# Altium footprint library Common_Drain.PcbLib: 13 footprints
Each footprint in its own frame and in the unit in brackets; x right, y up, seen from the top. Pads: shape width x height; smd on the part's side, far side on the other; paste and mask are expansions set on the pad; w line width, h text height; cw(c..) or ccw(c..) is an arc to the next point about the centre after c.
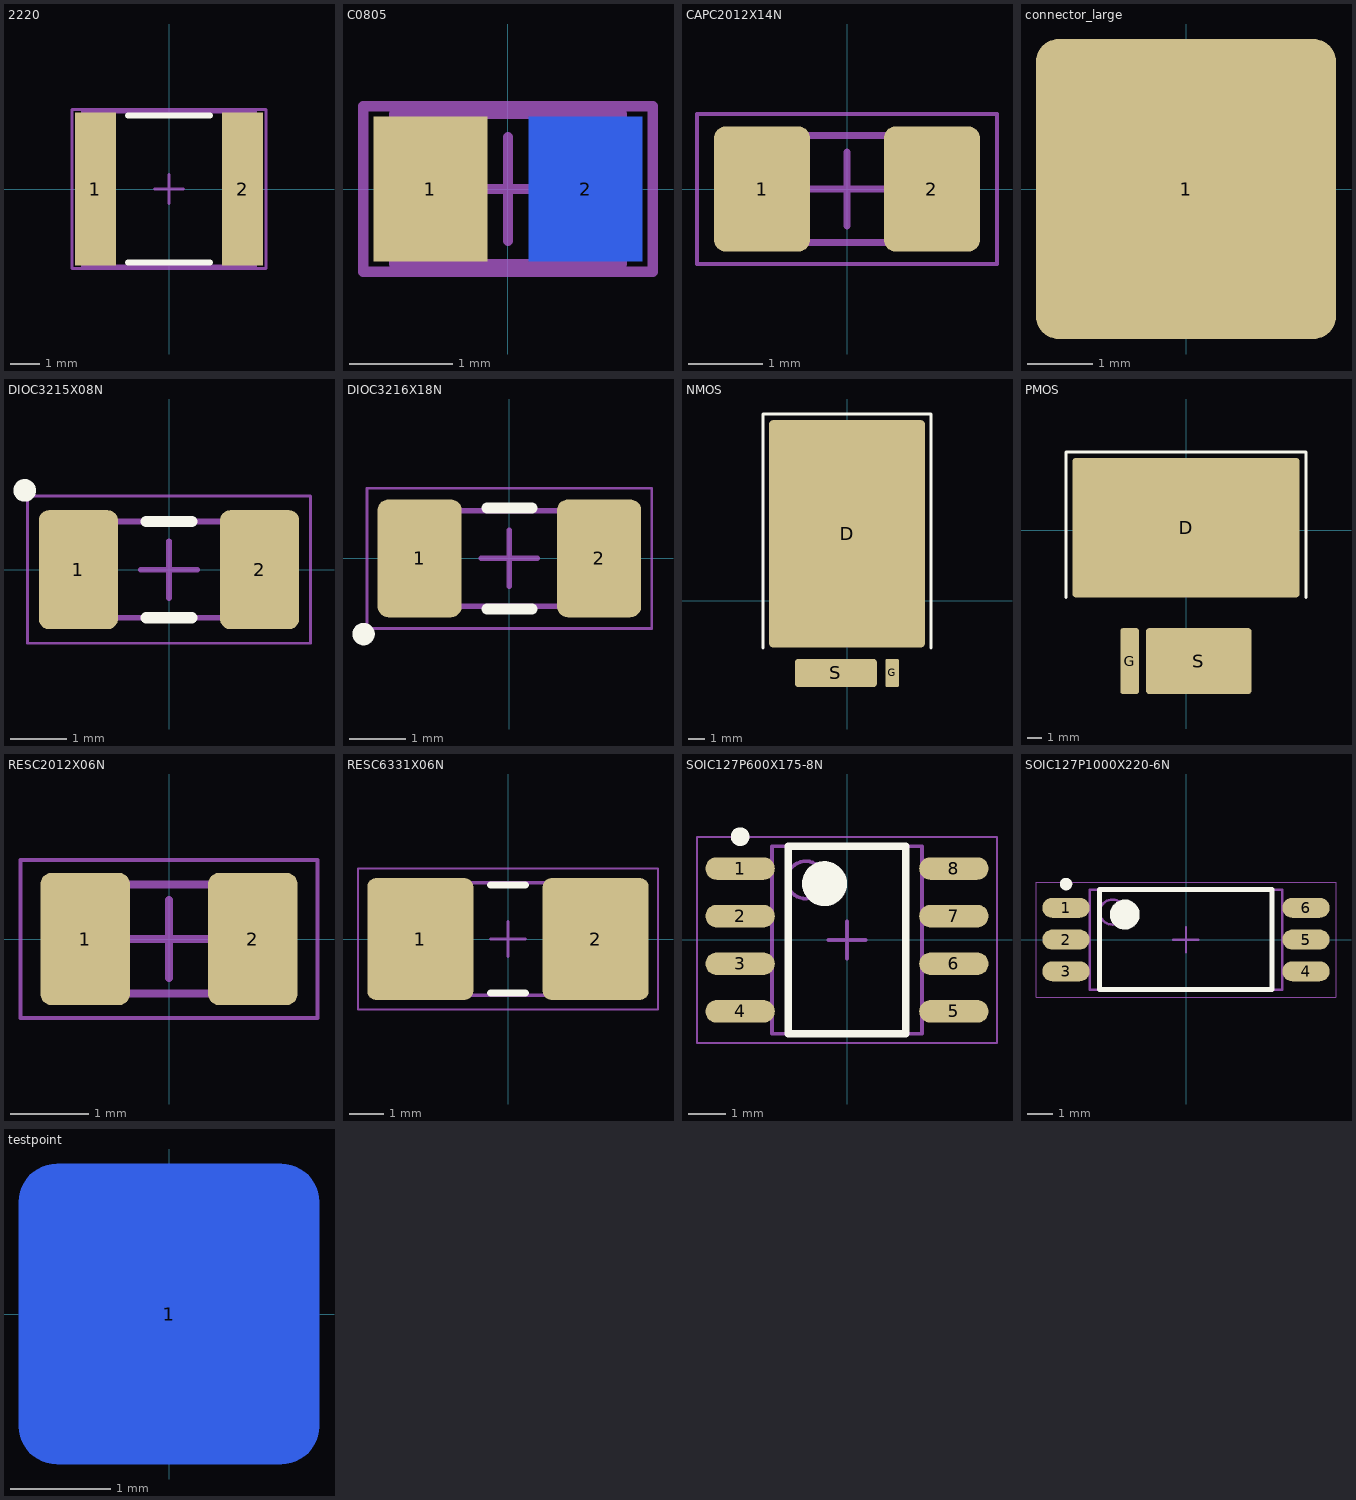
[diagram p0: the footprints below, top view; thin cyan lines are the x and y axes]

## 2220 [mm]
pads (2):
  rect 1.4x5.2 smd: 1(-2.5,0) 2(2.5,0)
Top Overlay:
  lines w0.2: -1.4,-2.5 1.4,-2.5 ; -1.4,2.5 1.4,2.5
Mechanical 13:
  lines w0.1: -2.95,-2.625 2.95,-2.625 2.95,2.625 -2.95,2.625 -2.95,-2.625
Mechanical 15:
  lines w0.1: -0.5,0 0.5,0 ; 0,-0.5 0,0.5 ; -3.3,-2.7 3.3,-2.7 3.3,2.7 -3.3,2.7 -3.3,-2.7
3D body: height 1.4, standoff 0, extent -2.95,-2.625 2.95,2.625

## C0805 [mm]
pads (2):
  rect 1.1x1.4 smd: 1(-0.75,0)
  rect 1.1x1.4 smd far side: 2(0.75,0)
Mechanical 13:
  lines w0.1: -1.1,-0.725 -1.1,0.725 1.1,0.725 1.1,-0.725 -1.1,-0.725
Mechanical 15:
  lines w0.1: -0.5,0 0.5,0 ; 0,-0.5 0,0.5 ; -1.4,-0.8 -1.4,0.8 1.4,0.8 1.4,-0.8 -1.4,-0.8
3D body: height 1.4, standoff 0, extent -1.1,-0.725 1.1,0.725

## CAPC2012X14N [mm]
pads (2):
  rrect25% 1.3x1.7 smd: 1(-1.15,0) 2(1.15,0)
Mechanical 13:
  lines w0.1: -1.1,-0.725 1.1,-0.725 1.1,0.725 -1.1,0.725 -1.1,-0.725
Mechanical 15:
  lines w0.05: -2.032,-1.016 -2.032,1.016 2.032,1.016 2.032,-1.016 -2.032,-1.016
  lines w0.1: -0.5,0 0.5,0 ; 0,-0.5 0,0.5
3D body "CAPC2012X14N.step": height 1.45, standoff 0, extent -1.1,-0.725 1.1,0.725

## connector_large [mil]
pads (1):
  rrect15% 180x180 smd: 1(0,0)

## DIOC3215X08N [mm]
pads (2):
  rrect25% 1.4x2.1 smd: 1(-1.6,0) 2(1.6,0)
Top Overlay:
  circle w0.2: c-2.55,1.4 r0.1
  lines w0.2: -0.4,-0.85 0.4,-0.85 ; -0.4,0.85 0.4,0.85
Mechanical 13:
  lines w0.1: -1.7,-0.85 -1.7,0.85 1.7,0.85 1.7,-0.85 -1.7,-0.85
Mechanical 15:
  lines w0.05: -2.5,-1.3 -2.5,1.3 2.5,1.3 2.5,-1.3 -2.5,-1.3
  lines w0.1: -0.5,0 0.5,0 ; 0,-0.5 0,0.5
3D body "DIOC3215X08N.step": height 0.85, standoff 0, extent -1.7,-0.85 1.7,0.85

## DIOC3216X18N [mm]
pads (2):
  rrect25% 1.5x2.1 smd: 1(-1.6,0) 2(1.6,0)
Top Overlay:
  circle w0.2: c-2.6,-1.35 r0.1
  lines w0.2: -0.4,-0.9 0.4,-0.9 ; -0.4,0.9 0.4,0.9
Mechanical 13:
  lines w0.1: -1.65,-0.85 -1.65,0.85 1.65,0.85 1.65,-0.85 -1.65,-0.85
Mechanical 15:
  lines w0.05: -2.54,-1.25 -2.54,1.25 2.54,1.25 2.54,-1.25 -2.54,-1.25
  lines w0.1: -0.5,0 0.5,0 ; 0,-0.5 0,0.5
3D body "XZxxxx55W-7.step": height 1.8, standoff -0.01, extent -1.6,-0.8 1.6,0.8

## NMOS [mil]
pads (3):
  rrect5% 380x554 smd: D(0,163)
  rrect25% 33x69 smd: G(110,-176)
  rrect25% 200x69 smd: S(-27,-176)
Top Overlay:
  lines w7.87: -205,-115 -205,455 205,455 205,-115
3D body "SOT669.step": height 39.44, standoff 0.16, extent -59.69,-170 129.68,70.55

## PMOS [mil]
pads (3):
  rrect5% 625x384 smd: D(0,7)
  rrect25% 51x181 smd: G(-155,-360)
  rrect10% 291x181 smd: S(35,-360)
Top Overlay:
  lines w7.87: -330,-185 -330,215 330,215 330,-185
3D body "DPAK228P991X238-3N.step": height 93.7, standoff 0, extent -197.87,-374.96 67.88,15

## RESC2012X06N [mm]
pads (2):
  rrect25% 1.15x1.7 smd: 1(-1.075,0) 2(1.075,0)
Mechanical 13:
  lines w0.1: -1.075,-0.7 -1.075,0.7 1.075,0.7 1.075,-0.7 -1.075,-0.7
Mechanical 15:
  lines w0.05: -1.905,-1.016 -1.905,1.016 1.905,1.016 1.905,-1.016 -1.905,-1.016
  lines w0.1: -0.5,0 0.5,0 ; 0,-0.5 0,0.5
3D body "RESC2012X06N.step": height 0.65, standoff 0, extent -1.075,-0.7 1.075,0.7

## RESC6331X06N [mm]
pads (2):
  rrect15% 3.05x3.5 smd: 1(-2.525,0) 2(2.525,0)
Top Overlay:
  lines w0.2: -0.5,-1.55 0.5,-1.55 ; -0.5,1.55 0.5,1.55
Mechanical 13:
  lines w0.1: -3.225,-1.625 -3.225,1.625 3.225,1.625 3.225,-1.625 -3.225,-1.625
Mechanical 15:
  lines w0.05: -4.318,-2.032 -4.318,2.032 4.318,2.032 4.318,-2.032 -4.318,-2.032
  lines w0.1: -0.5,0 0.5,0 ; 0,-0.5 0,0.5
3D body "RESC6331X06N.step": height 0.65, standoff 0, extent -3.225,-1.625 3.225,1.625

## SOIC127P600X175-8N [mm]
pads (8):
  oval 1.85x0.6 smd: 1(-2.85,1.905) 2(-2.85,0.635) 3(-2.85,-0.635) 4(-2.85,-1.905) 5(2.85,-1.905) 6(2.85,-0.635) 7(2.85,0.635) 8(2.85,1.905)
Top Overlay:
  circle w0.6: c-0.6,1.5 r0.3
  circle w0.25: c-2.85,2.755 r0.125
  lines w0.2: -1.57,-2.5 1.57,-2.5 1.57,2.5 -1.57,2.5 -1.57,-2.5
Mechanical 13:
  circle w0.1: c-1.1,1.6 r0.5
  lines w0.1: -2,-2.5 2,-2.5 2,2.5 -2,2.5 -2,-2.5
Mechanical 15:
  lines w0.05: -4,-2.75 4,-2.75 4,2.75 -4,2.75 -4,-2.75
  lines w0.1: -0.5,0 0.5,0 ; 0,-0.5 0,0.5
3D body "SOIC127P600X175-8N.step": height 1.75, standoff 0, extent -2.997,-2.5 2.997,2.5

## SOIC127P1000X220-6N [mm]
pads (6):
  oval 1.9x0.8 smd: 1(-4.8,1.27) 2(-4.8,0) 3(-4.8,-1.27) 4(4.8,-1.27) 5(4.8,0) 6(4.8,1.27)
Top Overlay:
  circle w0.25: c-4.8,2.22 r0.125
  circle w0.6: c-2.45,1 r0.3
  lines w0.2: -3.45,-2 -3.45,2 3.45,2 3.45,-2 -3.45,-2
Mechanical 13:
  circle w0.1: c-2.95,1.1 r0.5
  lines w0.1: -3.85,-2 -3.85,2 3.85,2 3.85,-2 -3.85,-2
Mechanical 15:
  lines w0.05: -6,-2.3 -6,2.3 6,2.3 6,-2.3 -6,-2.3
  lines w0.1: -0.5,0 0.5,0 ; 0,-0.5 0,0.5
3D body "SOIC127P1000X220-6N.step": height 2.2, standoff 0, extent -5,-2 5,2

## testpoint [mm]
pads (1):
  rrect25% 3x3 smd far side: 1(0,0)